# Altium integrated library Atmel Microcontroller tinyAVR.IntLib: 370 symbols (part 1 of 11)
Pins are listed as number, name and electrical type; pins without a type are passive.

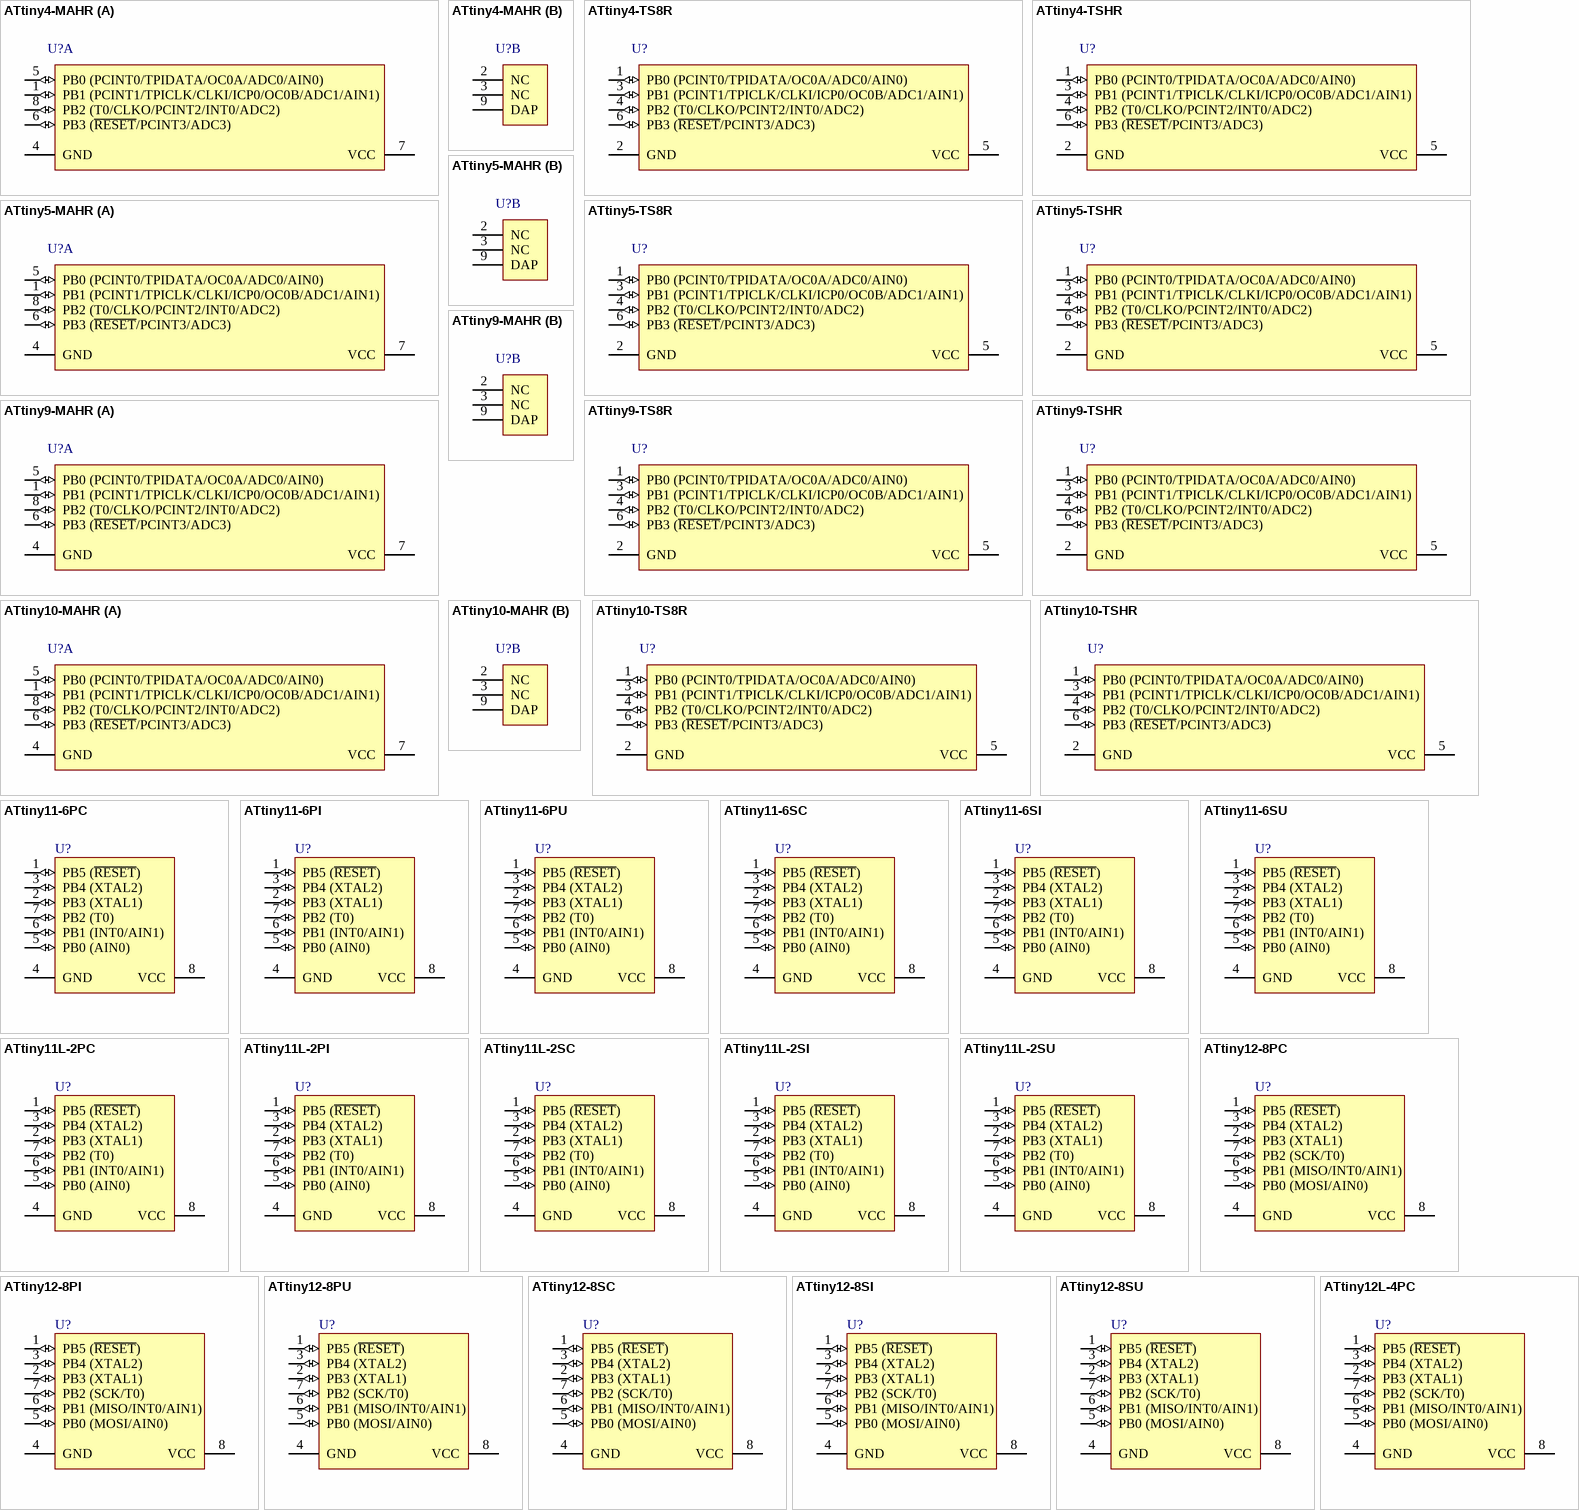
[diagram p0: symbols ATtiny4-MAHR to ATtiny12L-4PC]

## ATtiny4-MAHR
designator U?
8-bit AVR Microcontroller, 1.8-5.5V, 12MHz, 512 Bytes Flash, 32 Bytes SRAM, 8-pin UDFN, Industrial Grade (-40°C to 85°C), Pb-Free, Reel; DatasheetVersion: revE, Nov-2011; PackageVersion: revA, Dec-2009; PackageReference: 8MA4; PackageDescription: 8-Pad Plastic Dual Flat No Lead Package (UDFN/USON) Sawn,  2x2x0.6mm Body, 0.5mm Pitch, 0.9x1.5mm Exposed Pad; Code_JEDEC: MO-236/MO-252; ComponentLink1Description: Manufacturer URL; ComponentLink1URL: http://www.atmel.com/; ComponentLink2Description: ATtiny4/5/9/10 Datasheet; ComponentLink2URL: http://www.atmel.com/dyn/resources/prod_documents/doc8127.pdf; ComponentLink3Description: ATtiny4/5/9/10 Summary; ComponentLink3URL: http://www.atmel.com/dyn/resources/prod_documents/8127S.pdf
footprint 8MA4 (SON, 8-Leads, Body 2x2mm, Pitch 0.5mm)
part A pins: 1 PB1 (PCINT1/TPICLK/CLKI/ICP0/OC0B/ADC1/AIN1) (io), 4 GND (power), 5 PB0 (PCINT0/TPIDATA/OC0A/ADC0/AIN0) (io), 6 PB3 (~{RESET}/PCINT3/ADC3) (io), 7 VCC (power), 8 PB2 (T0/CLKO/PCINT2/INT0/ADC2) (io)
part B pins: 2 NC, 3 NC, 9 DAP (power)

## ATtiny4-TS8R
designator U?
8-bit AVR Microcontroller, 1.8-5.5V, 10MHz, 512 Bytes Flash, 32 Bytes SRAM, 6-pin SOT-23, Extended Grade (-40°C to 125°C), Pb-Free, Reel; DatasheetVersion: revE, Nov-2011; PackageVersion: revA, Jun-2008; PackageReference: 6ST1; PackageDescription: 6-Lead, 2.90 x 1.60 mm Plastic Small Outline Package (SOT23); Code_JEDEC: MO-178-AB; Code_IPC: SOT26A-6; ComponentLink1Description: Manufacturer URL; ComponentLink1URL: http://www.atmel.com/; ComponentLink2Description: ATtiny4/5/9/10 Datasheet; ComponentLink2URL: http://www.atmel.com/dyn/resources/prod_documents/doc8127.pdf; ComponentLink3Description: ATtiny4/5/9/10 Summary; ComponentLink3URL: http://www.atmel.com/dyn/resources/prod_documents/8127S.pdf; ComponentLink4Description: ATtiny4/5/9/10 Appendix; ComponentLink4URL: http://www.atmel.com/dyn/resources/prod_documents/doc8127_125.pdf
footprint 6ST1_N (SOT23, 6-Leads, Body 2.9x1.6mm, Pitch 0.95mm, Lead Span 2.7mm, IPC Medium Density)
footprint 6ST1_L (SOT23, 6-Leads, Body 2.9x1.6mm, Pitch 0.95mm, Lead Span 2.7mm, IPC High Density)
footprint 6ST1_M (SOT23, 6-Leads, Body 2.9x1.6mm, Pitch 0.95mm, Lead Span 2.7mm, IPC Low Density)
pins: 1 PB0 (PCINT0/TPIDATA/OC0A/ADC0/AIN0) (io), 2 GND (power), 3 PB1 (PCINT1/TPICLK/CLKI/ICP0/OC0B/ADC1/AIN1) (io), 4 PB2 (T0/CLKO/PCINT2/INT0/ADC2) (io), 5 VCC (power), 6 PB3 (~{RESET}/PCINT3/ADC3) (io)

## ATtiny4-TSHR
designator U?
8-bit AVR Microcontroller, 1.8-5.5V, 12MHz, 512 Bytes Flash, 32 Bytes SRAM, 6-pin SOT-23, Industrial Grade (-40°C to 85°C), Pb-Free, Reel; DatasheetVersion: revE, Nov-2011; PackageVersion: revA, Jun-2008; PackageReference: 6ST1; PackageDescription: 6-Lead, 2.90 x 1.60 mm Plastic Small Outline Package (SOT23); Code_JEDEC: MO-178-AB; Code_IPC: SOT26A-6; ComponentLink1Description: Manufacturer URL; ComponentLink1URL: http://www.atmel.com/; ComponentLink2Description: ATtiny4/5/9/10 Datasheet; ComponentLink2URL: http://www.atmel.com/dyn/resources/prod_documents/doc8127.pdf; ComponentLink3Description: ATtiny4/5/9/10 Summary; ComponentLink3URL: http://www.atmel.com/dyn/resources/prod_documents/8127S.pdf; ComponentLink4Description: ATtiny4/5/9/10 Appendix; ComponentLink4URL: http://www.atmel.com/dyn/resources/prod_documents/doc8127_125.pdf
footprint 6ST1_N (SOT23, 6-Leads, Body 2.9x1.6mm, Pitch 0.95mm, Lead Span 2.7mm, IPC Medium Density)
footprint 6ST1_L (SOT23, 6-Leads, Body 2.9x1.6mm, Pitch 0.95mm, Lead Span 2.7mm, IPC High Density)
footprint 6ST1_M (SOT23, 6-Leads, Body 2.9x1.6mm, Pitch 0.95mm, Lead Span 2.7mm, IPC Low Density)
pins: 1 PB0 (PCINT0/TPIDATA/OC0A/ADC0/AIN0) (io), 2 GND (power), 3 PB1 (PCINT1/TPICLK/CLKI/ICP0/OC0B/ADC1/AIN1) (io), 4 PB2 (T0/CLKO/PCINT2/INT0/ADC2) (io), 5 VCC (power), 6 PB3 (~{RESET}/PCINT3/ADC3) (io)

## ATtiny5-MAHR
designator U?
8-bit AVR Microcontroller, 1.8-5.5V, 12MHz, 512 Bytes Flash, 32 Bytes SRAM, ADC8-pin UDFN, Industrial Grade (-40°C to 85°C), Pb-Free, Reel; DatasheetVersion: revE, Nov-2011; PackageVersion: revA, Dec-2009; PackageReference: 8MA4; PackageDescription: 8-Pad Plastic Dual Flat No Lead Package (UDFN/USON) Sawn,  2x2x0.6mm Body, 0.5mm Pitch, 0.9x1.5mm Exposed Pad; Code_JEDEC: MO-236/MO-252; ComponentLink1Description: Manufacturer URL; ComponentLink1URL: http://www.atmel.com/; ComponentLink2Description: ATtiny4/5/9/10 Datasheet; ComponentLink2URL: http://www.atmel.com/dyn/resources/prod_documents/doc8127.pdf; ComponentLink3Description: ATtiny4/5/9/10 Summary; ComponentLink3URL: http://www.atmel.com/dyn/resources/prod_documents/8127S.pdf
footprint 8MA4 (SON, 8-Leads, Body 2x2mm, Pitch 0.5mm)
part A pins: 1 PB1 (PCINT1/TPICLK/CLKI/ICP0/OC0B/ADC1/AIN1) (io), 4 GND (power), 5 PB0 (PCINT0/TPIDATA/OC0A/ADC0/AIN0) (io), 6 PB3 (~{RESET}/PCINT3/ADC3) (io), 7 VCC (power), 8 PB2 (T0/CLKO/PCINT2/INT0/ADC2) (io)
part B pins: 2 NC, 3 NC, 9 DAP (power)

## ATtiny5-TS8R
designator U?
8-bit AVR Microcontroller, 1.8-5.5V, 10MHz, 512 Bytes Flash, 32 Bytes SRAM, ADC, 6-pin SOT-23, Extended Grade (-40°C to 125°C), Pb-Free, Reel; DatasheetVersion: revE, Nov-2011; PackageVersion: revA, Jun-2008; PackageReference: 6ST1; PackageDescription: 6-Lead, 2.90 x 1.60 mm Plastic Small Outline Package (SOT23); Code_JEDEC: MO-178-AB; Code_IPC: SOT26A-6; ComponentLink1Description: Manufacturer URL; ComponentLink1URL: http://www.atmel.com/; ComponentLink2Description: ATtiny4/5/9/10 Datasheet; ComponentLink2URL: http://www.atmel.com/dyn/resources/prod_documents/doc8127.pdf; ComponentLink3Description: ATtiny4/5/9/10 Summary; ComponentLink3URL: http://www.atmel.com/dyn/resources/prod_documents/8127S.pdf; ComponentLink4Description: ATtiny4/5/9/10 Appendix; ComponentLink4URL: http://www.atmel.com/dyn/resources/prod_documents/doc8127_125.pdf
footprint 6ST1_N (SOT23, 6-Leads, Body 2.9x1.6mm, Pitch 0.95mm, Lead Span 2.7mm, IPC Medium Density)
footprint 6ST1_L (SOT23, 6-Leads, Body 2.9x1.6mm, Pitch 0.95mm, Lead Span 2.7mm, IPC High Density)
footprint 6ST1_M (SOT23, 6-Leads, Body 2.9x1.6mm, Pitch 0.95mm, Lead Span 2.7mm, IPC Low Density)
pins: 1 PB0 (PCINT0/TPIDATA/OC0A/ADC0/AIN0) (io), 2 GND (power), 3 PB1 (PCINT1/TPICLK/CLKI/ICP0/OC0B/ADC1/AIN1) (io), 4 PB2 (T0/CLKO/PCINT2/INT0/ADC2) (io), 5 VCC (power), 6 PB3 (~{RESET}/PCINT3/ADC3) (io)

## ATtiny5-TSHR
designator U?
8-bit AVR Microcontroller, 1.8-5.5V, 12MHz, 512 Bytes Flash, 32 Bytes SRAM, ADC6-pin SOT-23, Industrial Grade (-40°C to 85°C), Pb-Free, Reel; DatasheetVersion: revE, Nov-2011; PackageVersion: revA, Jun-2008; PackageReference: 6ST1; PackageDescription: 6-Lead, 2.90 x 1.60 mm Plastic Small Outline Package (SOT23); Code_JEDEC: MO-178-AB; Code_IPC: SOT26A-6; ComponentLink1Description: Manufacturer URL; ComponentLink1URL: http://www.atmel.com/; ComponentLink2Description: ATtiny4/5/9/10 Datasheet; ComponentLink2URL: http://www.atmel.com/dyn/resources/prod_documents/doc8127.pdf; ComponentLink3Description: ATtiny4/5/9/10 Summary; ComponentLink3URL: http://www.atmel.com/dyn/resources/prod_documents/8127S.pdf
footprint 6ST1_N (SOT23, 6-Leads, Body 2.9x1.6mm, Pitch 0.95mm, Lead Span 2.7mm, IPC Medium Density)
footprint 6ST1_L (SOT23, 6-Leads, Body 2.9x1.6mm, Pitch 0.95mm, Lead Span 2.7mm, IPC High Density)
footprint 6ST1_M (SOT23, 6-Leads, Body 2.9x1.6mm, Pitch 0.95mm, Lead Span 2.7mm, IPC Low Density)
pins: 1 PB0 (PCINT0/TPIDATA/OC0A/ADC0/AIN0) (io), 2 GND (power), 3 PB1 (PCINT1/TPICLK/CLKI/ICP0/OC0B/ADC1/AIN1) (io), 4 PB2 (T0/CLKO/PCINT2/INT0/ADC2) (io), 5 VCC (power), 6 PB3 (~{RESET}/PCINT3/ADC3) (io)

## ATtiny9-MAHR
designator U?
8-bit AVR Microcontroller, 1.8-5.5V, 12MHz, 1KB Flash, 32 Bytes SRAM, 8-pin UDFN, Industrial Grade (-40°C to 85°C), Pb-Free, Reel; DatasheetVersion: revE, Nov-2011; PackageVersion: revA, Dec-2009; PackageReference: 8MA4; PackageDescription: 8-Pad Plastic Dual Flat No Lead Package (UDFN/USON) Sawn,  2x2x0.6mm Body, 0.5mm Pitch, 0.9x1.5mm Exposed Pad; Code_JEDEC: MO-236/MO-252; ComponentLink1Description: Manufacturer URL; ComponentLink1URL: http://www.atmel.com/; ComponentLink2Description: ATtiny4/5/9/10 Datasheet; ComponentLink2URL: http://www.atmel.com/dyn/resources/prod_documents/doc8127.pdf; ComponentLink3Description: ATtiny4/5/9/10 Summary; ComponentLink3URL: http://www.atmel.com/dyn/resources/prod_documents/8127S.pdf
footprint 8MA4 (SON, 8-Leads, Body 2x2mm, Pitch 0.5mm)
part A pins: 1 PB1 (PCINT1/TPICLK/CLKI/ICP0/OC0B/ADC1/AIN1) (io), 4 GND (power), 5 PB0 (PCINT0/TPIDATA/OC0A/ADC0/AIN0) (io), 6 PB3 (~{RESET}/PCINT3/ADC3) (io), 7 VCC (power), 8 PB2 (T0/CLKO/PCINT2/INT0/ADC2) (io)
part B pins: 2 NC, 3 NC, 9 DAP (power)

## ATtiny9-TS8R
designator U?
8-bit AVR Microcontroller, 1.8-5.5V, 10MHz, 1KB Flash, 32 Bytes SRAM, 6-pin SOT-23, Extended Grade (-40°C to 125°C), Pb-Free, Reel; DatasheetVersion: revE, Nov-2011; PackageVersion: revA, Jun-2008; PackageReference: 6ST1; PackageDescription: 6-Lead, 2.90 x 1.60 mm Plastic Small Outline Package (SOT23); Code_JEDEC: MO-178-AB; Code_IPC: SOT26A-6; ComponentLink1Description: Manufacturer URL; ComponentLink1URL: http://www.atmel.com/; ComponentLink2Description: ATtiny4/5/9/10 Datasheet; ComponentLink2URL: http://www.atmel.com/dyn/resources/prod_documents/doc8127.pdf; ComponentLink3Description: ATtiny4/5/9/10 Summary; ComponentLink3URL: http://www.atmel.com/dyn/resources/prod_documents/8127S.pdf; ComponentLink4Description: ATtiny4/5/9/10 Appendix; ComponentLink4URL: http://www.atmel.com/dyn/resources/prod_documents/doc8127_125.pdf
footprint 6ST1_N (SOT23, 6-Leads, Body 2.9x1.6mm, Pitch 0.95mm, Lead Span 2.7mm, IPC Medium Density)
footprint 6ST1_L (SOT23, 6-Leads, Body 2.9x1.6mm, Pitch 0.95mm, Lead Span 2.7mm, IPC High Density)
footprint 6ST1_M (SOT23, 6-Leads, Body 2.9x1.6mm, Pitch 0.95mm, Lead Span 2.7mm, IPC Low Density)
pins: 1 PB0 (PCINT0/TPIDATA/OC0A/ADC0/AIN0) (io), 2 GND (power), 3 PB1 (PCINT1/TPICLK/CLKI/ICP0/OC0B/ADC1/AIN1) (io), 4 PB2 (T0/CLKO/PCINT2/INT0/ADC2) (io), 5 VCC (power), 6 PB3 (~{RESET}/PCINT3/ADC3) (io)

## ATtiny9-TSHR
designator U?
8-bit AVR Microcontroller, 1.8-5.5V, 12MHz, 1KB Flash, 32 Bytes SRAM, 6-pin SOT-23, Industrial Grade (-40°C to 85°C), Pb-Free, Reel; DatasheetVersion: revE, Nov-2011; PackageVersion: revA, Jun-2008; PackageReference: 6ST1; PackageDescription: 6-Lead, 2.90 x 1.60 mm Plastic Small Outline Package (SOT23); Code_JEDEC: MO-178-AB; Code_IPC: SOT26A-6; ComponentLink1Description: Manufacturer URL; ComponentLink1URL: http://www.atmel.com/; ComponentLink2Description: ATtiny4/5/9/10 Datasheet; ComponentLink2URL: http://www.atmel.com/dyn/resources/prod_documents/doc8127.pdf; ComponentLink3Description: ATtiny4/5/9/10 Summary; ComponentLink3URL: http://www.atmel.com/dyn/resources/prod_documents/8127S.pdf
footprint 6ST1_N (SOT23, 6-Leads, Body 2.9x1.6mm, Pitch 0.95mm, Lead Span 2.7mm, IPC Medium Density)
footprint 6ST1_L (SOT23, 6-Leads, Body 2.9x1.6mm, Pitch 0.95mm, Lead Span 2.7mm, IPC High Density)
footprint 6ST1_M (SOT23, 6-Leads, Body 2.9x1.6mm, Pitch 0.95mm, Lead Span 2.7mm, IPC Low Density)
pins: 1 PB0 (PCINT0/TPIDATA/OC0A/ADC0/AIN0) (io), 2 GND (power), 3 PB1 (PCINT1/TPICLK/CLKI/ICP0/OC0B/ADC1/AIN1) (io), 4 PB2 (T0/CLKO/PCINT2/INT0/ADC2) (io), 5 VCC (power), 6 PB3 (~{RESET}/PCINT3/ADC3) (io)

## ATtiny10-MAHR
designator U?
8-bit AVR Microcontroller, 1.8-5.5V, 12MHz, 1KB Flash, 32 Bytes SRAM, ADC, 8-pin UDFN, Industrial Grade (-40°C to 85°C), Pb-Free, Reel; DatasheetVersion: revE, Nov-2011; PackageVersion: revA, Dec-2009; PackageReference: 8MA4; PackageDescription: 8-Pad Plastic Dual Flat No Lead Package (UDFN/USON) Sawn,  2x2x0.6mm Body, 0.5mm Pitch, 0.9x1.5mm Exposed Pad; Code_JEDEC: MO-236/MO-252; ComponentLink1Description: Manufacturer URL; ComponentLink1URL: http://www.atmel.com/; ComponentLink2Description: ATtiny4/5/9/10 Datasheet; ComponentLink2URL: http://www.atmel.com/dyn/resources/prod_documents/doc8127.pdf; ComponentLink3Description: ATtiny4/5/9/10 Summary; ComponentLink3URL: http://www.atmel.com/dyn/resources/prod_documents/8127S.pdf
footprint 8MA4 (SON, 8-Leads, Body 2x2mm, Pitch 0.5mm)
part A pins: 1 PB1 (PCINT1/TPICLK/CLKI/ICP0/OC0B/ADC1/AIN1) (io), 4 GND (power), 5 PB0 (PCINT0/TPIDATA/OC0A/ADC0/AIN0) (io), 6 PB3 (~{RESET}/PCINT3/ADC3) (io), 7 VCC (power), 8 PB2 (T0/CLKO/PCINT2/INT0/ADC2) (io)
part B pins: 2 NC, 3 NC, 9 DAP (power)

## ATtiny10-TS8R
designator U?
8-bit AVR Microcontroller, 1.8-5.5V, 10MHz, 1KB Flash, 32 Bytes SRAM, ADC, 6-pin SOT-23, Extended Grade (-40°C to 125°C), Pb-Free, Reel; DatasheetVersion: revE, Nov-2011; PackageVersion: revA, Jun-2008; PackageReference: 6ST1; PackageDescription: 6-Lead, 2.90 x 1.60 mm Plastic Small Outline Package (SOT23); Code_JEDEC: MO-178-AB; Code_IPC: SOT26A-6; ComponentLink1Description: Manufacturer URL; ComponentLink1URL: http://www.atmel.com/; ComponentLink2Description: ATtiny4/5/9/10 Datasheet; ComponentLink2URL: http://www.atmel.com/dyn/resources/prod_documents/doc8127.pdf; ComponentLink3Description: ATtiny4/5/9/10 Summary; ComponentLink3URL: http://www.atmel.com/dyn/resources/prod_documents/8127S.pdf
footprint 6ST1_N (SOT23, 6-Leads, Body 2.9x1.6mm, Pitch 0.95mm, Lead Span 2.7mm, IPC Medium Density)
footprint 6ST1_L (SOT23, 6-Leads, Body 2.9x1.6mm, Pitch 0.95mm, Lead Span 2.7mm, IPC High Density)
footprint 6ST1_M (SOT23, 6-Leads, Body 2.9x1.6mm, Pitch 0.95mm, Lead Span 2.7mm, IPC Low Density)
pins: 1 PB0 (PCINT0/TPIDATA/OC0A/ADC0/AIN0) (io), 2 GND (power), 3 PB1 (PCINT1/TPICLK/CLKI/ICP0/OC0B/ADC1/AIN1) (io), 4 PB2 (T0/CLKO/PCINT2/INT0/ADC2) (io), 5 VCC (power), 6 PB3 (~{RESET}/PCINT3/ADC3) (io)

## ATtiny10-TSHR
designator U?
8-bit AVR Microcontroller, 1.8-5.5V, 12MHz, 1KB Flash, 32 Bytes SRAM, ADC, 6-pin SOT-23, Industrial Grade (-40°C to 85°C), Pb-Free, Reel; DatasheetVersion: revE, Nov-2011; PackageVersion: revA, Jun-2008; PackageReference: 6ST1; PackageDescription: 6-Lead, 2.90 x 1.60 mm Plastic Small Outline Package (SOT23); Code_JEDEC: MO-178-AB; Code_IPC: SOT26A-6; ComponentLink1Description: Manufacturer URL; ComponentLink1URL: http://www.atmel.com/; ComponentLink2Description: ATtiny4/5/9/10 Datasheet; ComponentLink2URL: http://www.atmel.com/dyn/resources/prod_documents/doc8127.pdf; ComponentLink3Description: ATtiny4/5/9/10 Summary; ComponentLink3URL: http://www.atmel.com/dyn/resources/prod_documents/8127S.pdf
footprint 6ST1_N (SOT23, 6-Leads, Body 2.9x1.6mm, Pitch 0.95mm, Lead Span 2.7mm, IPC Medium Density)
footprint 6ST1_L (SOT23, 6-Leads, Body 2.9x1.6mm, Pitch 0.95mm, Lead Span 2.7mm, IPC High Density)
footprint 6ST1_M (SOT23, 6-Leads, Body 2.9x1.6mm, Pitch 0.95mm, Lead Span 2.7mm, IPC Low Density)
pins: 1 PB0 (PCINT0/TPIDATA/OC0A/ADC0/AIN0) (io), 2 GND (power), 3 PB1 (PCINT1/TPICLK/CLKI/ICP0/OC0B/ADC1/AIN1) (io), 4 PB2 (T0/CLKO/PCINT2/INT0/ADC2) (io), 5 VCC (power), 6 PB3 (~{RESET}/PCINT3/ADC3) (io)

## ATtiny11-6PC
designator U?
8-bit AVR Microcontroller, 4.0-5.5V, 1KB Flash, 8-pin PDIP, Commercial Grade (0°C to 70°C); DatasheetVersion: revF, Jun-2007; PackageVersion: revB, Jan-2002; PackageReference: 8P3; PackageDescription: 8-Lead, 0.300" Wide Body, Plastic Dual In-Line Package (PDIP); Code_JEDEC: MS-001-BA; ComponentLink1Description: Manufacturer URL; ComponentLink1URL: http://www.atmel.com/; ComponentLink2Description: ATtiny11/12 Datasheet; ComponentLink2URL: http://www.atmel.com/dyn/resources/prod_documents/doc1006.pdf; ComponentLink3Description: ATtiny11/12 Summary; ComponentLink3URL: http://www.atmel.com/dyn/resources/prod_documents/1006S.pdf
footprint 8P3 (DIP, 8-Leads, Row Spacing 7.62mm, Pitch 2.54mm, Body 9.59x6.61mm)
pins: 1 PB5 (~{RESET}) (io), 2 PB3 (XTAL1) (io), 3 PB4 (XTAL2) (io), 4 GND (power), 5 PB0 (AIN0) (io), 6 PB1 (INT0/AIN1) (io), 7 PB2 (T0) (io), 8 VCC (power)

## ATtiny11-6PI
designator U?
8-bit AVR Microcontroller, 4.0-5.5V, 1KB Flash, 8-pin PDIP, Industrial Grade (-40°C to 85°C); DatasheetVersion: revF, Jun-2007; PackageVersion: revB, Jan-2002; PackageReference: 8P3; PackageDescription: 8-Lead, 0.300" Wide Body, Plastic Dual In-Line Package (PDIP); Code_JEDEC: MS-001-BA; ComponentLink1Description: Manufacturer URL; ComponentLink1URL: http://www.atmel.com/; ComponentLink2Description: ATtiny11/12 Datasheet; ComponentLink2URL: http://www.atmel.com/dyn/resources/prod_documents/doc1006.pdf; ComponentLink3Description: ATtiny11/12 Summary; ComponentLink3URL: http://www.atmel.com/dyn/resources/prod_documents/1006S.pdf
footprint 8P3 (DIP, 8-Leads, Row Spacing 7.62mm, Pitch 2.54mm, Body 9.59x6.61mm)
pins: 1 PB5 (~{RESET}) (io), 2 PB3 (XTAL1) (io), 3 PB4 (XTAL2) (io), 4 GND (power), 5 PB0 (AIN0) (io), 6 PB1 (INT0/AIN1) (io), 7 PB2 (T0) (io), 8 VCC (power)

## ATtiny11-6PU
designator U?
8-bit AVR Microcontroller, 4.0-5.5V, 1KB Flash, 8-pin PDIP, Industrial Grade (-40°C to 85°C), Pb-Free; DatasheetVersion: revF, Jun-2007; PackageVersion: revB, Jan-2002; PackageReference: 8P3; PackageDescription: 8-Lead, 0.300" Wide Body, Plastic Dual In-Line Package (PDIP); Code_JEDEC: MS-001-BA; ComponentLink1Description: Manufacturer URL; ComponentLink1URL: http://www.atmel.com/; ComponentLink2Description: ATtiny11/12 Datasheet; ComponentLink2URL: http://www.atmel.com/dyn/resources/prod_documents/doc1006.pdf; ComponentLink3Description: ATtiny11/12 Summary; ComponentLink3URL: http://www.atmel.com/dyn/resources/prod_documents/1006S.pdf
footprint 8P3 (DIP, 8-Leads, Row Spacing 7.62mm, Pitch 2.54mm, Body 9.59x6.61mm)
pins: 1 PB5 (~{RESET}) (io), 2 PB3 (XTAL1) (io), 3 PB4 (XTAL2) (io), 4 GND (power), 5 PB0 (AIN0) (io), 6 PB1 (INT0/AIN1) (io), 7 PB2 (T0) (io), 8 VCC (power)

## ATtiny11-6SC
designator U?
8-bit AVR Microcontroller, 4.0-5.5V, 1KB Flash, 8-pin SOIC, Commercial Grade (0°C to 70°C); DatasheetVersion: revF, Jun-2007; PackageVersion: revF, Apr-2008; PackageReference: 8S2; PackageDescription: 8-Lead, 0.208" Body, Plastic Small Outline Package (EIAJ); ComponentLink1Description: Manufacturer URL; ComponentLink1URL: http://www.atmel.com/; ComponentLink2Description: ATtiny11/12 Datasheet; ComponentLink2URL: http://www.atmel.com/dyn/resources/prod_documents/doc1006.pdf; ComponentLink3Description: ATtiny11/12 Summary; ComponentLink3URL: http://www.atmel.com/dyn/resources/prod_documents/1006S.pdf
footprint 8S2_N (SOP, 8-Leads, Body 5.3x5.3mm, Pitch 1.27mm, IPC Medium Density)
footprint 8S2_L (SOP, 8-Leads, Body 5.3x5.3mm, Pitch 1.27mm, IPC High Density)
footprint 8S2_M (SOP, 8-Leads, Body 5.3x5.3mm, Pitch 1.27mm, IPC Low Density)
pins: 1 PB5 (~{RESET}) (io), 2 PB3 (XTAL1) (io), 3 PB4 (XTAL2) (io), 4 GND (power), 5 PB0 (AIN0) (io), 6 PB1 (INT0/AIN1) (io), 7 PB2 (T0) (io), 8 VCC (power)

## ATtiny11-6SI
designator U?
8-bit AVR Microcontroller, 4.0-5.5V, 1KB Flash, 8-pin SOIC, Industrial Grade (-40°C to 85°C); DatasheetVersion: revF, Jun-2007; PackageVersion: revF, Apr-2008; PackageReference: 8S2; PackageDescription: 8-Lead, 0.208" Body, Plastic Small Outline Package (EIAJ); ComponentLink1Description: Manufacturer URL; ComponentLink1URL: http://www.atmel.com/; ComponentLink2Description: ATtiny11/12 Datasheet; ComponentLink2URL: http://www.atmel.com/dyn/resources/prod_documents/doc1006.pdf; ComponentLink3Description: ATtiny11/12 Summary; ComponentLink3URL: http://www.atmel.com/dyn/resources/prod_documents/1006S.pdf
footprint 8S2_N (SOP, 8-Leads, Body 5.3x5.3mm, Pitch 1.27mm, IPC Medium Density)
footprint 8S2_L (SOP, 8-Leads, Body 5.3x5.3mm, Pitch 1.27mm, IPC High Density)
footprint 8S2_M (SOP, 8-Leads, Body 5.3x5.3mm, Pitch 1.27mm, IPC Low Density)
pins: 1 PB5 (~{RESET}) (io), 2 PB3 (XTAL1) (io), 3 PB4 (XTAL2) (io), 4 GND (power), 5 PB0 (AIN0) (io), 6 PB1 (INT0/AIN1) (io), 7 PB2 (T0) (io), 8 VCC (power)

## ATtiny11-6SU
designator U?
8-bit AVR Microcontroller, 4.0-5.5V, 1KB Flash, 8-pin SOIC, Industrial Grade (-40°C to 85°C), Pb-Free; DatasheetVersion: revF, Jun-2007; PackageVersion: revF, Apr-2008; PackageReference: 8S2; PackageDescription: 8-Lead, 0.208" Body, Plastic Small Outline Package (EIAJ); ComponentLink1Description: Manufacturer URL; ComponentLink1URL: http://www.atmel.com/; ComponentLink2Description: ATtiny11/12 Datasheet; ComponentLink2URL: http://www.atmel.com/dyn/resources/prod_documents/doc1006.pdf; ComponentLink3Description: ATtiny11/12 Summary; ComponentLink3URL: http://www.atmel.com/dyn/resources/prod_documents/1006S.pdf
footprint 8S2_N (SOP, 8-Leads, Body 5.3x5.3mm, Pitch 1.27mm, IPC Medium Density)
footprint 8S2_L (SOP, 8-Leads, Body 5.3x5.3mm, Pitch 1.27mm, IPC High Density)
footprint 8S2_M (SOP, 8-Leads, Body 5.3x5.3mm, Pitch 1.27mm, IPC Low Density)
pins: 1 PB5 (~{RESET}) (io), 2 PB3 (XTAL1) (io), 3 PB4 (XTAL2) (io), 4 GND (power), 5 PB0 (AIN0) (io), 6 PB1 (INT0/AIN1) (io), 7 PB2 (T0) (io), 8 VCC (power)

## ATtiny11L-2PC
designator U?
8-bit AVR Microcontroller, 2.7-5.5V, 1KB Flash, 8-pin PDIP, Commercial Grade (0°C to 70°C); DatasheetVersion: revF, Jun-2007; PackageVersion: revB, Jan-2002; PackageReference: 8P3; PackageDescription: 8-Lead, 0.300" Wide Body, Plastic Dual In-Line Package (PDIP); Code_JEDEC: MS-001-BA; ComponentLink1Description: Manufacturer URL; ComponentLink1URL: http://www.atmel.com/; ComponentLink2Description: ATtiny11/12 Datasheet; ComponentLink2URL: http://www.atmel.com/dyn/resources/prod_documents/doc1006.pdf; ComponentLink3Description: ATtiny11/12 Summary; ComponentLink3URL: http://www.atmel.com/dyn/resources/prod_documents/1006S.pdf
footprint 8P3 (DIP, 8-Leads, Row Spacing 7.62mm, Pitch 2.54mm, Body 9.59x6.61mm)
pins: 1 PB5 (~{RESET}) (io), 2 PB3 (XTAL1) (io), 3 PB4 (XTAL2) (io), 4 GND (power), 5 PB0 (AIN0) (io), 6 PB1 (INT0/AIN1) (io), 7 PB2 (T0) (io), 8 VCC (power)

## ATtiny11L-2PI
designator U?
8-bit AVR Microcontroller, 2.7-5.5V, 1KB Flash, 8-pin PDIP, Industrial Grade (-40°C to 85°C); DatasheetVersion: revF, Jun-2007; PackageVersion: revB, Jan-2002; PackageReference: 8P3; PackageDescription: 8-Lead, 0.300" Wide Body, Plastic Dual In-Line Package (PDIP); Code_JEDEC: MS-001-BA; ComponentLink1Description: Manufacturer URL; ComponentLink1URL: http://www.atmel.com/; ComponentLink2Description: ATtiny11/12 Datasheet; ComponentLink2URL: http://www.atmel.com/dyn/resources/prod_documents/doc1006.pdf; ComponentLink3Description: ATtiny11/12 Summary; ComponentLink3URL: http://www.atmel.com/dyn/resources/prod_documents/1006S.pdf
footprint 8P3 (DIP, 8-Leads, Row Spacing 7.62mm, Pitch 2.54mm, Body 9.59x6.61mm)
pins: 1 PB5 (~{RESET}) (io), 2 PB3 (XTAL1) (io), 3 PB4 (XTAL2) (io), 4 GND (power), 5 PB0 (AIN0) (io), 6 PB1 (INT0/AIN1) (io), 7 PB2 (T0) (io), 8 VCC (power)

## ATtiny11L-2SC
designator U?
8-bit AVR Microcontroller, 2.7-5.5V, 1KB Flash, 8-pin SOIC, Commercial Grade (0°C to 70°C); DatasheetVersion: revF, Jun-2007; PackageVersion: revF, Apr-2008; PackageReference: 8S2; PackageDescription: 8-Lead, 0.208" Body, Plastic Small Outline Package (EIAJ); ComponentLink1Description: Manufacturer URL; ComponentLink1URL: http://www.atmel.com/; ComponentLink2Description: ATtiny11/12 Datasheet; ComponentLink2URL: http://www.atmel.com/dyn/resources/prod_documents/doc1006.pdf; ComponentLink3Description: ATtiny11/12 Summary; ComponentLink3URL: http://www.atmel.com/dyn/resources/prod_documents/1006S.pdf
footprint 8S2_N (SOP, 8-Leads, Body 5.3x5.3mm, Pitch 1.27mm, IPC Medium Density)
footprint 8S2_L (SOP, 8-Leads, Body 5.3x5.3mm, Pitch 1.27mm, IPC High Density)
footprint 8S2_M (SOP, 8-Leads, Body 5.3x5.3mm, Pitch 1.27mm, IPC Low Density)
pins: 1 PB5 (~{RESET}) (io), 2 PB3 (XTAL1) (io), 3 PB4 (XTAL2) (io), 4 GND (power), 5 PB0 (AIN0) (io), 6 PB1 (INT0/AIN1) (io), 7 PB2 (T0) (io), 8 VCC (power)

## ATtiny11L-2SI
designator U?
8-bit AVR Microcontroller, 2.7-5.5V, 1KB Flash, 8-pin SOIC, Industrial Grade (-40°C to 85°C); DatasheetVersion: revF, Jun-2007; PackageVersion: revF, Apr-2008; PackageReference: 8S2; PackageDescription: 8-Lead, 0.208" Body, Plastic Small Outline Package (EIAJ); ComponentLink1Description: Manufacturer URL; ComponentLink1URL: http://www.atmel.com/; ComponentLink2Description: ATtiny11/12 Datasheet; ComponentLink2URL: http://www.atmel.com/dyn/resources/prod_documents/doc1006.pdf; ComponentLink3Description: ATtiny11/12 Summary; ComponentLink3URL: http://www.atmel.com/dyn/resources/prod_documents/1006S.pdf
footprint 8S2_N (SOP, 8-Leads, Body 5.3x5.3mm, Pitch 1.27mm, IPC Medium Density)
footprint 8S2_L (SOP, 8-Leads, Body 5.3x5.3mm, Pitch 1.27mm, IPC High Density)
footprint 8S2_M (SOP, 8-Leads, Body 5.3x5.3mm, Pitch 1.27mm, IPC Low Density)
pins: 1 PB5 (~{RESET}) (io), 2 PB3 (XTAL1) (io), 3 PB4 (XTAL2) (io), 4 GND (power), 5 PB0 (AIN0) (io), 6 PB1 (INT0/AIN1) (io), 7 PB2 (T0) (io), 8 VCC (power)

## ATtiny11L-2SU
designator U?
8-bit AVR Microcontroller, 2.7-5.5V, 1KB Flash, 8-pin SOIC, Industrial Grade (-40°C to 85°C), Pb-Free; DatasheetVersion: revF, Jun-2007; PackageVersion: revF, Apr-2008; PackageReference: 8S2; PackageDescription: 8-Lead, 0.208" Body, Plastic Small Outline Package (EIAJ); ComponentLink1Description: Manufacturer URL; ComponentLink1URL: http://www.atmel.com/; ComponentLink2Description: ATtiny11/12 Datasheet; ComponentLink2URL: http://www.atmel.com/dyn/resources/prod_documents/doc1006.pdf; ComponentLink3Description: ATtiny11/12 Summary; ComponentLink3URL: http://www.atmel.com/dyn/resources/prod_documents/1006S.pdf
footprint 8S2_N (SOP, 8-Leads, Body 5.3x5.3mm, Pitch 1.27mm, IPC Medium Density)
footprint 8S2_L (SOP, 8-Leads, Body 5.3x5.3mm, Pitch 1.27mm, IPC High Density)
footprint 8S2_M (SOP, 8-Leads, Body 5.3x5.3mm, Pitch 1.27mm, IPC Low Density)
pins: 1 PB5 (~{RESET}) (io), 2 PB3 (XTAL1) (io), 3 PB4 (XTAL2) (io), 4 GND (power), 5 PB0 (AIN0) (io), 6 PB1 (INT0/AIN1) (io), 7 PB2 (T0) (io), 8 VCC (power)

## ATtiny12-8PC
designator U?
8-bit AVR Microcontroller, 4.0-5.5V, 1KB Flash, 64 Bytes EEPROM, 8-pin PDIP, Commercial Grade (0°C to 70°C); DatasheetVersion: revF, Jun-2007; PackageVersion: revB, Jan-2002; PackageReference: 8P3; PackageDescription: 8-Lead, 0.300" Wide Body, Plastic Dual In-Line Package (PDIP); Code_JEDEC: MS-001-BA; ComponentLink1Description: Manufacturer URL; ComponentLink1URL: http://www.atmel.com/; ComponentLink2Description: ATtiny11/12 Datasheet; ComponentLink2URL: http://www.atmel.com/dyn/resources/prod_documents/doc1006.pdf; ComponentLink3Description: ATtiny11/12 Summary; ComponentLink3URL: http://www.atmel.com/dyn/resources/prod_documents/1006S.pdf
footprint 8P3 (DIP, 8-Leads, Row Spacing 7.62mm, Pitch 2.54mm, Body 9.59x6.61mm)
pins: 1 PB5 (~{RESET}) (io), 2 PB3 (XTAL1) (io), 3 PB4 (XTAL2) (io), 4 GND (power), 5 PB0 (MOSI/AIN0) (io), 6 PB1 (MISO/INT0/AIN1) (io), 7 PB2 (SCK/T0) (io), 8 VCC (power)

## ATtiny12-8PI
designator U?
8-bit AVR Microcontroller, 4.0-5.5V, 1KB Flash, 64 Bytes EEPROM, 8-pin PDIP, Industrial Grade (-40°C to 85°C); DatasheetVersion: revF, Jun-2007; PackageVersion: revB, Jan-2002; PackageReference: 8P3; PackageDescription: 8-Lead, 0.300" Wide Body, Plastic Dual In-Line Package (PDIP); Code_JEDEC: MS-001-BA; ComponentLink1Description: Manufacturer URL; ComponentLink1URL: http://www.atmel.com/; ComponentLink2Description: ATtiny11/12 Datasheet; ComponentLink2URL: http://www.atmel.com/dyn/resources/prod_documents/doc1006.pdf; ComponentLink3Description: ATtiny11/12 Summary; ComponentLink3URL: http://www.atmel.com/dyn/resources/prod_documents/1006S.pdf
footprint 8P3 (DIP, 8-Leads, Row Spacing 7.62mm, Pitch 2.54mm, Body 9.59x6.61mm)
pins: 1 PB5 (~{RESET}) (io), 2 PB3 (XTAL1) (io), 3 PB4 (XTAL2) (io), 4 GND (power), 5 PB0 (MOSI/AIN0) (io), 6 PB1 (MISO/INT0/AIN1) (io), 7 PB2 (SCK/T0) (io), 8 VCC (power)

## ATtiny12-8PU
designator U?
8-bit AVR Microcontroller, 4.0-5.5V, 1KB Flash, 64 Bytes EEPROM, 8-pin PDIP, Industrial Grade (-40°C to 85°C), Pb-Free; DatasheetVersion: revF, Jun-2007; PackageVersion: revB, Jan-2002; PackageReference: 8P3; PackageDescription: 8-Lead, 0.300" Wide Body, Plastic Dual In-Line Package (PDIP); Code_JEDEC: MS-001-BA; ComponentLink1Description: Manufacturer URL; ComponentLink1URL: http://www.atmel.com/; ComponentLink2Description: ATtiny11/12 Datasheet; ComponentLink2URL: http://www.atmel.com/dyn/resources/prod_documents/doc1006.pdf; ComponentLink3Description: ATtiny11/12 Summary; ComponentLink3URL: http://www.atmel.com/dyn/resources/prod_documents/1006S.pdf
footprint 8P3 (DIP, 8-Leads, Row Spacing 7.62mm, Pitch 2.54mm, Body 9.59x6.61mm)
pins: 1 PB5 (~{RESET}) (io), 2 PB3 (XTAL1) (io), 3 PB4 (XTAL2) (io), 4 GND (power), 5 PB0 (MOSI/AIN0) (io), 6 PB1 (MISO/INT0/AIN1) (io), 7 PB2 (SCK/T0) (io), 8 VCC (power)

## ATtiny12-8SC
designator U?
8-bit AVR Microcontroller, 4.0-5.5V, 1KB Flash, 64 Bytes EEPROM, 8-pin SOIC, Commercial Grade (0°C to 70°C); DatasheetVersion: revF, Jun-2007; PackageVersion: revF, Apr-2008; PackageReference: 8S2; PackageDescription: 8-Lead, 0.208" Body, Plastic Small Outline Package (EIAJ); ComponentLink1Description: Manufacturer URL; ComponentLink1URL: http://www.atmel.com/; ComponentLink2Description: ATtiny11/12 Datasheet; ComponentLink2URL: http://www.atmel.com/dyn/resources/prod_documents/doc1006.pdf; ComponentLink3Description: ATtiny11/12 Summary; ComponentLink3URL: http://www.atmel.com/dyn/resources/prod_documents/1006S.pdf
footprint 8S2_N (SOP, 8-Leads, Body 5.3x5.3mm, Pitch 1.27mm, IPC Medium Density)
footprint 8S2_L (SOP, 8-Leads, Body 5.3x5.3mm, Pitch 1.27mm, IPC High Density)
footprint 8S2_M (SOP, 8-Leads, Body 5.3x5.3mm, Pitch 1.27mm, IPC Low Density)
pins: 1 PB5 (~{RESET}) (io), 2 PB3 (XTAL1) (io), 3 PB4 (XTAL2) (io), 4 GND (power), 5 PB0 (MOSI/AIN0) (io), 6 PB1 (MISO/INT0/AIN1) (io), 7 PB2 (SCK/T0) (io), 8 VCC (power)

## ATtiny12-8SI
designator U?
8-bit AVR Microcontroller, 4.0-5.5V, 1KB Flash, 64 Bytes EEPROM, 8-pin SOIC, Industrial Grade (-40°C to 85°C); DatasheetVersion: revF, Jun-2007; PackageVersion: revF, Apr-2008; PackageReference: 8S2; PackageDescription: 8-Lead, 0.208" Body, Plastic Small Outline Package (EIAJ); ComponentLink1Description: Manufacturer URL; ComponentLink1URL: http://www.atmel.com/; ComponentLink2Description: ATtiny11/12 Datasheet; ComponentLink2URL: http://www.atmel.com/dyn/resources/prod_documents/doc1006.pdf; ComponentLink3Description: ATtiny11/12 Summary; ComponentLink3URL: http://www.atmel.com/dyn/resources/prod_documents/1006S.pdf
footprint 8S2_N (SOP, 8-Leads, Body 5.3x5.3mm, Pitch 1.27mm, IPC Medium Density)
footprint 8S2_L (SOP, 8-Leads, Body 5.3x5.3mm, Pitch 1.27mm, IPC High Density)
footprint 8S2_M (SOP, 8-Leads, Body 5.3x5.3mm, Pitch 1.27mm, IPC Low Density)
pins: 1 PB5 (~{RESET}) (io), 2 PB3 (XTAL1) (io), 3 PB4 (XTAL2) (io), 4 GND (power), 5 PB0 (MOSI/AIN0) (io), 6 PB1 (MISO/INT0/AIN1) (io), 7 PB2 (SCK/T0) (io), 8 VCC (power)

## ATtiny12-8SU
designator U?
8-bit AVR Microcontroller, 4.0-5.5V, 1KB Flash, 64 Bytes EEPROM, 8-pin SOIC, Industrial Grade (-40°C to 85°C), Pb-Free; DatasheetVersion: revF, Jun-2007; PackageVersion: revF, Apr-2008; PackageReference: 8S2; PackageDescription: 8-Lead, 0.208" Body, Plastic Small Outline Package (EIAJ); ComponentLink1Description: Manufacturer URL; ComponentLink1URL: http://www.atmel.com/; ComponentLink2Description: ATtiny11/12 Datasheet; ComponentLink2URL: http://www.atmel.com/dyn/resources/prod_documents/doc1006.pdf; ComponentLink3Description: ATtiny11/12 Summary; ComponentLink3URL: http://www.atmel.com/dyn/resources/prod_documents/1006S.pdf
footprint 8S2_N (SOP, 8-Leads, Body 5.3x5.3mm, Pitch 1.27mm, IPC Medium Density)
footprint 8S2_L (SOP, 8-Leads, Body 5.3x5.3mm, Pitch 1.27mm, IPC High Density)
footprint 8S2_M (SOP, 8-Leads, Body 5.3x5.3mm, Pitch 1.27mm, IPC Low Density)
pins: 1 PB5 (~{RESET}) (io), 2 PB3 (XTAL1) (io), 3 PB4 (XTAL2) (io), 4 GND (power), 5 PB0 (MOSI/AIN0) (io), 6 PB1 (MISO/INT0/AIN1) (io), 7 PB2 (SCK/T0) (io), 8 VCC (power)

## ATtiny12L-4PC
designator U?
8-bit AVR Microcontroller, 2.7-5.5V, 1KB Flash, 64 Bytes EEPROM, 8-pin PDIP, Commercial Grade (0°C to 70°C); DatasheetVersion: revF, Jun-2007; PackageVersion: revB, Jan-2002; PackageReference: 8P3; PackageDescription: 8-Lead, 0.300" Wide Body, Plastic Dual In-Line Package (PDIP); Code_JEDEC: MS-001-BA; ComponentLink1Description: Manufacturer URL; ComponentLink1URL: http://www.atmel.com/; ComponentLink2Description: ATtiny11/12 Datasheet; ComponentLink2URL: http://www.atmel.com/dyn/resources/prod_documents/doc1006.pdf; ComponentLink3Description: ATtiny11/12 Summary; ComponentLink3URL: http://www.atmel.com/dyn/resources/prod_documents/1006S.pdf
footprint 8P3 (DIP, 8-Leads, Row Spacing 7.62mm, Pitch 2.54mm, Body 9.59x6.61mm)
pins: 1 PB5 (~{RESET}) (io), 2 PB3 (XTAL1) (io), 3 PB4 (XTAL2) (io), 4 GND (power), 5 PB0 (MOSI/AIN0) (io), 6 PB1 (MISO/INT0/AIN1) (io), 7 PB2 (SCK/T0) (io), 8 VCC (power)

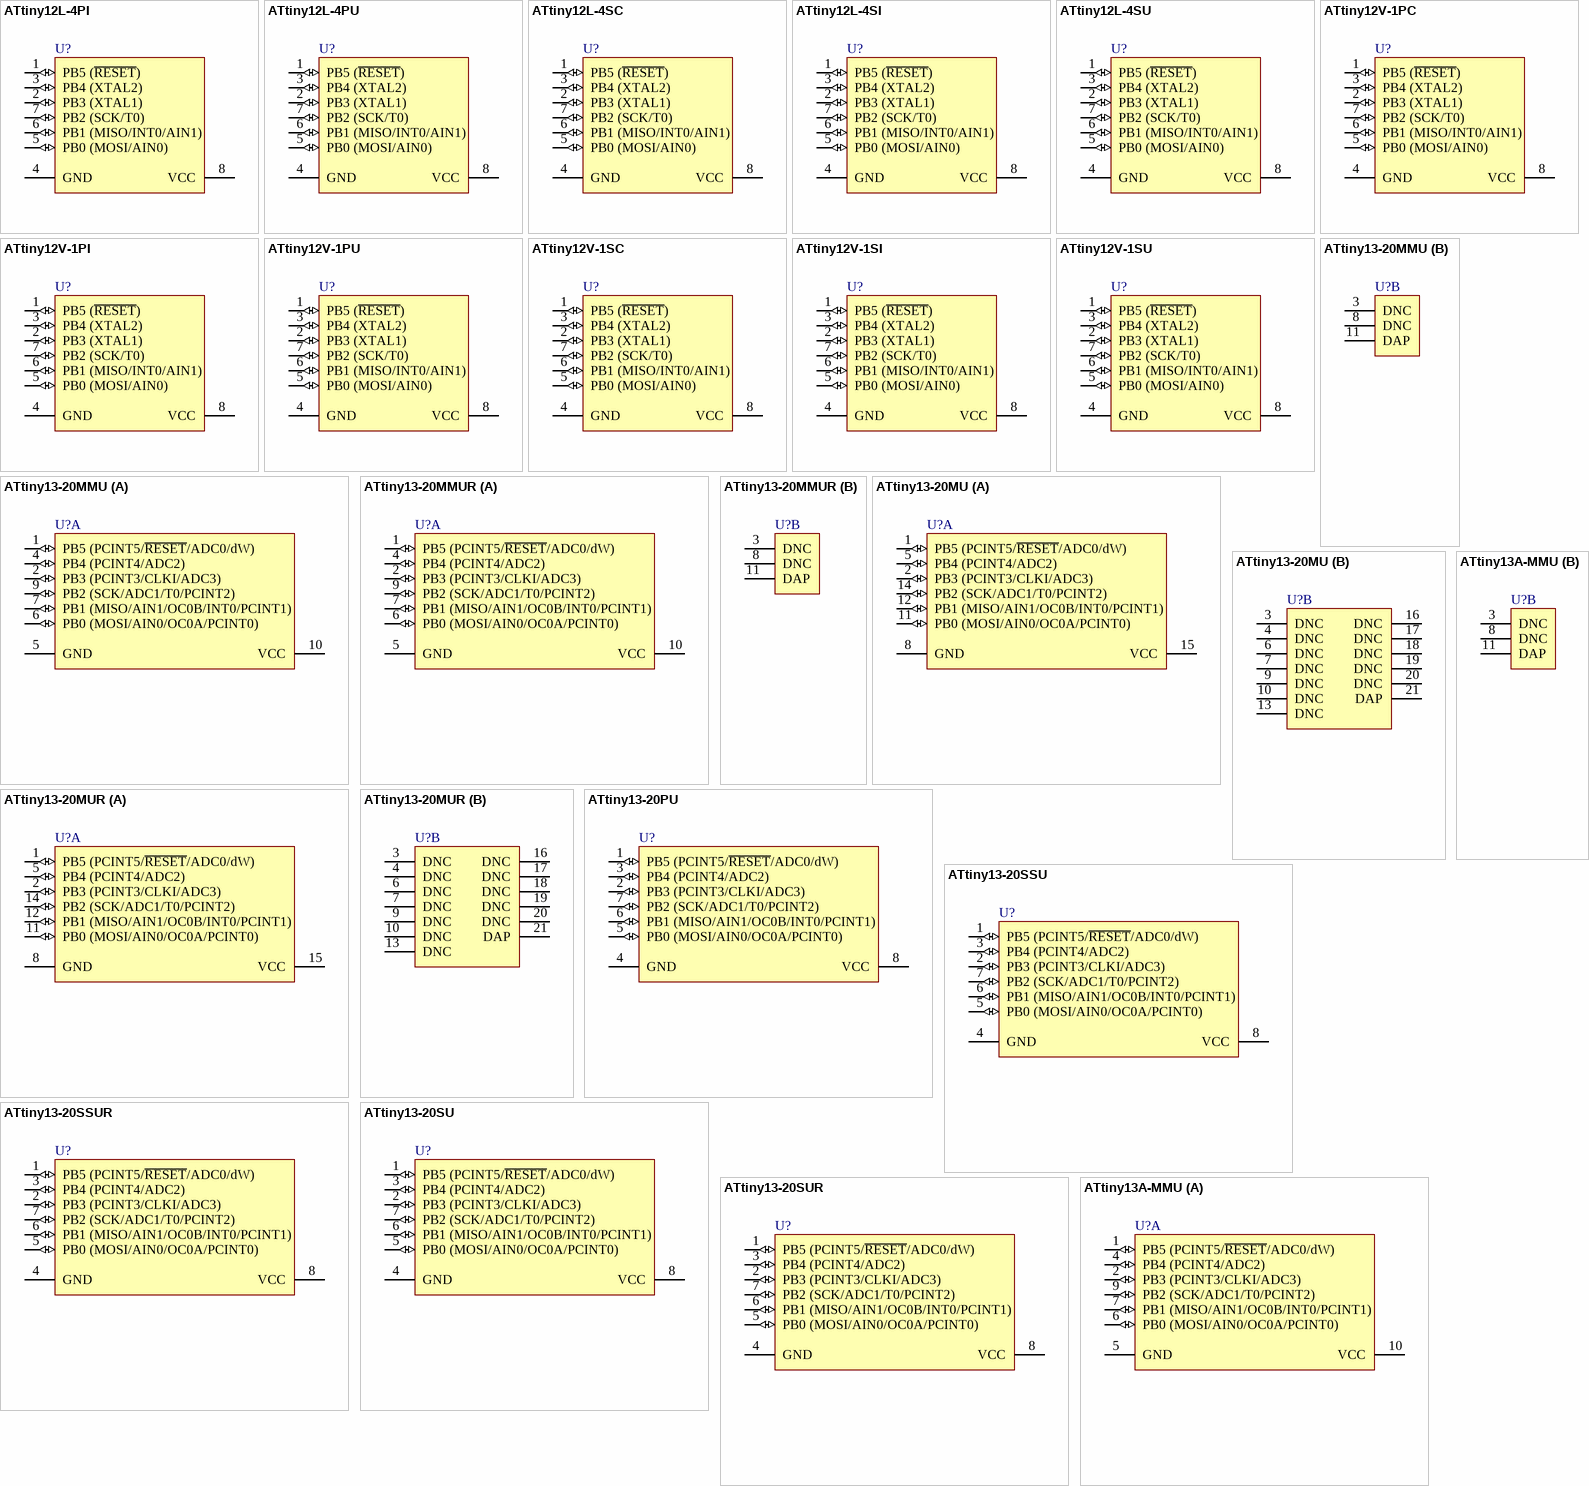
[diagram p1: symbols ATtiny12L-4PI to ATtiny13A-MMU]

## ATtiny12L-4PI
designator U?
8-bit AVR Microcontroller, 2.7-5.5V, 1KB Flash, 64 Bytes EEPROM, 8-pin PDIP, Industrial Grade (-40°C to 85°C); DatasheetVersion: revF, Jun-2007; PackageVersion: revB, Jan-2002; PackageReference: 8P3; PackageDescription: 8-Lead, 0.300" Wide Body, Plastic Dual In-Line Package (PDIP); Code_JEDEC: MS-001-BA; ComponentLink1Description: Manufacturer URL; ComponentLink1URL: http://www.atmel.com/; ComponentLink2Description: ATtiny11/12 Datasheet; ComponentLink2URL: http://www.atmel.com/dyn/resources/prod_documents/doc1006.pdf; ComponentLink3Description: ATtiny11/12 Summary; ComponentLink3URL: http://www.atmel.com/dyn/resources/prod_documents/1006S.pdf
footprint 8P3 (DIP, 8-Leads, Row Spacing 7.62mm, Pitch 2.54mm, Body 9.59x6.61mm)
pins: 1 PB5 (~{RESET}) (io), 2 PB3 (XTAL1) (io), 3 PB4 (XTAL2) (io), 4 GND (power), 5 PB0 (MOSI/AIN0) (io), 6 PB1 (MISO/INT0/AIN1) (io), 7 PB2 (SCK/T0) (io), 8 VCC (power)

## ATtiny12L-4PU
designator U?
8-bit AVR Microcontroller, 2.7-5.5V, 1KB Flash, 64 Bytes EEPROM, 8-pin PDIP, Industrial Grade (-40°C to 85°C), Pb-Free; DatasheetVersion: revF, Jun-2007; PackageVersion: revB, Jan-2002; PackageReference: 8P3; PackageDescription: 8-Lead, 0.300" Wide Body, Plastic Dual In-Line Package (PDIP); Code_JEDEC: MS-001-BA; ComponentLink1Description: Manufacturer URL; ComponentLink1URL: http://www.atmel.com/; ComponentLink2Description: ATtiny11/12 Datasheet; ComponentLink2URL: http://www.atmel.com/dyn/resources/prod_documents/doc1006.pdf; ComponentLink3Description: ATtiny11/12 Summary; ComponentLink3URL: http://www.atmel.com/dyn/resources/prod_documents/1006S.pdf
footprint 8P3 (DIP, 8-Leads, Row Spacing 7.62mm, Pitch 2.54mm, Body 9.59x6.61mm)
pins: 1 PB5 (~{RESET}) (io), 2 PB3 (XTAL1) (io), 3 PB4 (XTAL2) (io), 4 GND (power), 5 PB0 (MOSI/AIN0) (io), 6 PB1 (MISO/INT0/AIN1) (io), 7 PB2 (SCK/T0) (io), 8 VCC (power)

## ATtiny12L-4SC
designator U?
8-bit AVR Microcontroller, 2.7-5.5V, 1KB Flash, 64 Bytes EEPROM, 8-pin SOIC, Commercial Grade (0°C to 70°C); DatasheetVersion: revF, Jun-2007; PackageVersion: revF, Apr-2008; PackageReference: 8S2; PackageDescription: 8-Lead, 0.208" Body, Plastic Small Outline Package (EIAJ); ComponentLink1Description: Manufacturer URL; ComponentLink1URL: http://www.atmel.com/; ComponentLink2Description: ATtiny11/12 Datasheet; ComponentLink2URL: http://www.atmel.com/dyn/resources/prod_documents/doc1006.pdf; ComponentLink3Description: ATtiny11/12 Summary; ComponentLink3URL: http://www.atmel.com/dyn/resources/prod_documents/1006S.pdf
footprint 8S2_N (SOP, 8-Leads, Body 5.3x5.3mm, Pitch 1.27mm, IPC Medium Density)
footprint 8S2_L (SOP, 8-Leads, Body 5.3x5.3mm, Pitch 1.27mm, IPC High Density)
footprint 8S2_M (SOP, 8-Leads, Body 5.3x5.3mm, Pitch 1.27mm, IPC Low Density)
pins: 1 PB5 (~{RESET}) (io), 2 PB3 (XTAL1) (io), 3 PB4 (XTAL2) (io), 4 GND (power), 5 PB0 (MOSI/AIN0) (io), 6 PB1 (MISO/INT0/AIN1) (io), 7 PB2 (SCK/T0) (io), 8 VCC (power)

## ATtiny12L-4SI
designator U?
8-bit AVR Microcontroller, 2.7-5.5V, 1KB Flash, 64 Bytes EEPROM, 8-pin SOIC, Industrial Grade (-40°C to 85°C); DatasheetVersion: revF, Jun-2007; PackageVersion: revF, Apr-2008; PackageReference: 8S2; PackageDescription: 8-Lead, 0.208" Body, Plastic Small Outline Package (EIAJ); ComponentLink1Description: Manufacturer URL; ComponentLink1URL: http://www.atmel.com/; ComponentLink2Description: ATtiny11/12 Datasheet; ComponentLink2URL: http://www.atmel.com/dyn/resources/prod_documents/doc1006.pdf; ComponentLink3Description: ATtiny11/12 Summary; ComponentLink3URL: http://www.atmel.com/dyn/resources/prod_documents/1006S.pdf
footprint 8S2_N (SOP, 8-Leads, Body 5.3x5.3mm, Pitch 1.27mm, IPC Medium Density)
footprint 8S2_L (SOP, 8-Leads, Body 5.3x5.3mm, Pitch 1.27mm, IPC High Density)
footprint 8S2_M (SOP, 8-Leads, Body 5.3x5.3mm, Pitch 1.27mm, IPC Low Density)
pins: 1 PB5 (~{RESET}) (io), 2 PB3 (XTAL1) (io), 3 PB4 (XTAL2) (io), 4 GND (power), 5 PB0 (MOSI/AIN0) (io), 6 PB1 (MISO/INT0/AIN1) (io), 7 PB2 (SCK/T0) (io), 8 VCC (power)

## ATtiny12L-4SU
designator U?
8-bit AVR Microcontroller, 2.7-5.5V, 1KB Flash, 64 Bytes EEPROM, 8-pin SOIC, Industrial Grade (-40°C to 85°C), Pb-Free; DatasheetVersion: revF, Jun-2007; PackageVersion: revF, Apr-2008; PackageReference: 8S2; PackageDescription: 8-Lead, 0.208" Body, Plastic Small Outline Package (EIAJ); ComponentLink1Description: Manufacturer URL; ComponentLink1URL: http://www.atmel.com/; ComponentLink2Description: ATtiny11/12 Datasheet; ComponentLink2URL: http://www.atmel.com/dyn/resources/prod_documents/doc1006.pdf; ComponentLink3Description: ATtiny11/12 Summary; ComponentLink3URL: http://www.atmel.com/dyn/resources/prod_documents/1006S.pdf
footprint 8S2_N (SOP, 8-Leads, Body 5.3x5.3mm, Pitch 1.27mm, IPC Medium Density)
footprint 8S2_L (SOP, 8-Leads, Body 5.3x5.3mm, Pitch 1.27mm, IPC High Density)
footprint 8S2_M (SOP, 8-Leads, Body 5.3x5.3mm, Pitch 1.27mm, IPC Low Density)
pins: 1 PB5 (~{RESET}) (io), 2 PB3 (XTAL1) (io), 3 PB4 (XTAL2) (io), 4 GND (power), 5 PB0 (MOSI/AIN0) (io), 6 PB1 (MISO/INT0/AIN1) (io), 7 PB2 (SCK/T0) (io), 8 VCC (power)

## ATtiny12V-1PC
designator U?
8-bit AVR Microcontroller, 1.8-5.5V, 1KB Flash, 64 Bytes EEPROM, 8-pin PDIP, Commercial Grade (0°C to 70°C); DatasheetVersion: revF, Jun-2007; PackageVersion: revB, Jan-2002; PackageReference: 8P3; PackageDescription: 8-Lead, 0.300" Wide Body, Plastic Dual In-Line Package (PDIP); Code_JEDEC: MS-001-BA; ComponentLink1Description: Manufacturer URL; ComponentLink1URL: http://www.atmel.com/; ComponentLink2Description: ATtiny11/12 Datasheet; ComponentLink2URL: http://www.atmel.com/dyn/resources/prod_documents/doc1006.pdf; ComponentLink3Description: ATtiny11/12 Summary; ComponentLink3URL: http://www.atmel.com/dyn/resources/prod_documents/1006S.pdf
footprint 8P3 (DIP, 8-Leads, Row Spacing 7.62mm, Pitch 2.54mm, Body 9.59x6.61mm)
pins: 1 PB5 (~{RESET}) (io), 2 PB3 (XTAL1) (io), 3 PB4 (XTAL2) (io), 4 GND (power), 5 PB0 (MOSI/AIN0) (io), 6 PB1 (MISO/INT0/AIN1) (io), 7 PB2 (SCK/T0) (io), 8 VCC (power)

## ATtiny12V-1PI
designator U?
8-bit AVR Microcontroller, 1.8-5.5V, 1KB Flash, 64 Bytes EEPROM, 8-pin PDIP, Industrial Grade (-40°C to 85°C); DatasheetVersion: revF, Jun-2007; PackageVersion: revB, Jan-2002; PackageReference: 8P3; PackageDescription: 8-Lead, 0.300" Wide Body, Plastic Dual In-Line Package (PDIP); Code_JEDEC: MS-001-BA; ComponentLink1Description: Manufacturer URL; ComponentLink1URL: http://www.atmel.com/; ComponentLink2Description: ATtiny11/12 Datasheet; ComponentLink2URL: http://www.atmel.com/dyn/resources/prod_documents/doc1006.pdf; ComponentLink3Description: ATtiny11/12 Summary; ComponentLink3URL: http://www.atmel.com/dyn/resources/prod_documents/1006S.pdf
footprint 8P3 (DIP, 8-Leads, Row Spacing 7.62mm, Pitch 2.54mm, Body 9.59x6.61mm)
pins: 1 PB5 (~{RESET}) (io), 2 PB3 (XTAL1) (io), 3 PB4 (XTAL2) (io), 4 GND (power), 5 PB0 (MOSI/AIN0) (io), 6 PB1 (MISO/INT0/AIN1) (io), 7 PB2 (SCK/T0) (io), 8 VCC (power)

## ATtiny12V-1PU
designator U?
8-bit AVR Microcontroller, 1.8-5.5V, 1KB Flash, 64 Bytes EEPROM, 8-pin PDIP, Industrial Grade (-40°C to 85°C), Pb-Free; DatasheetVersion: revF, Jun-2007; PackageVersion: revB, Jan-2002; PackageReference: 8P3; PackageDescription: 8-Lead, 0.300" Wide Body, Plastic Dual In-Line Package (PDIP); Code_JEDEC: MS-001-BA; ComponentLink1Description: Manufacturer URL; ComponentLink1URL: http://www.atmel.com/; ComponentLink2Description: ATtiny11/12 Datasheet; ComponentLink2URL: http://www.atmel.com/dyn/resources/prod_documents/doc1006.pdf; ComponentLink3Description: ATtiny11/12 Summary; ComponentLink3URL: http://www.atmel.com/dyn/resources/prod_documents/1006S.pdf
footprint 8P3 (DIP, 8-Leads, Row Spacing 7.62mm, Pitch 2.54mm, Body 9.59x6.61mm)
pins: 1 PB5 (~{RESET}) (io), 2 PB3 (XTAL1) (io), 3 PB4 (XTAL2) (io), 4 GND (power), 5 PB0 (MOSI/AIN0) (io), 6 PB1 (MISO/INT0/AIN1) (io), 7 PB2 (SCK/T0) (io), 8 VCC (power)

## ATtiny12V-1SC
designator U?
8-bit AVR Microcontroller, 1.8-5.5V, 1KB Flash, 64 Bytes EEPROM, 8-pin SOIC, Commercial Grade (0°C to 70°C); DatasheetVersion: revF, Jun-2007; PackageVersion: revF, Apr-2008; PackageReference: 8S2; PackageDescription: 8-Lead, 0.208" Body, Plastic Small Outline Package (EIAJ); ComponentLink1Description: Manufacturer URL; ComponentLink1URL: http://www.atmel.com/; ComponentLink2Description: ATtiny11/12 Datasheet; ComponentLink2URL: http://www.atmel.com/dyn/resources/prod_documents/doc1006.pdf; ComponentLink3Description: ATtiny11/12 Summary; ComponentLink3URL: http://www.atmel.com/dyn/resources/prod_documents/1006S.pdf
footprint 8S2_N (SOP, 8-Leads, Body 5.3x5.3mm, Pitch 1.27mm, IPC Medium Density)
footprint 8S2_L (SOP, 8-Leads, Body 5.3x5.3mm, Pitch 1.27mm, IPC High Density)
footprint 8S2_M (SOP, 8-Leads, Body 5.3x5.3mm, Pitch 1.27mm, IPC Low Density)
pins: 1 PB5 (~{RESET}) (io), 2 PB3 (XTAL1) (io), 3 PB4 (XTAL2) (io), 4 GND (power), 5 PB0 (MOSI/AIN0) (io), 6 PB1 (MISO/INT0/AIN1) (io), 7 PB2 (SCK/T0) (io), 8 VCC (power)

## ATtiny12V-1SI
designator U?
8-bit AVR Microcontroller, 1.8-5.5V, 1KB Flash, 64 Bytes EEPROM, 8-pin SOIC, Industrial Grade (-40°C to 85°C); DatasheetVersion: revF, Jun-2007; PackageVersion: revF, Apr-2008; PackageReference: 8S2; PackageDescription: 8-Lead, 0.208" Body, Plastic Small Outline Package (EIAJ); ComponentLink1Description: Manufacturer URL; ComponentLink1URL: http://www.atmel.com/; ComponentLink2Description: ATtiny11/12 Datasheet; ComponentLink2URL: http://www.atmel.com/dyn/resources/prod_documents/doc1006.pdf; ComponentLink3Description: ATtiny11/12 Summary; ComponentLink3URL: http://www.atmel.com/dyn/resources/prod_documents/1006S.pdf
footprint 8S2_N (SOP, 8-Leads, Body 5.3x5.3mm, Pitch 1.27mm, IPC Medium Density)
footprint 8S2_L (SOP, 8-Leads, Body 5.3x5.3mm, Pitch 1.27mm, IPC High Density)
footprint 8S2_M (SOP, 8-Leads, Body 5.3x5.3mm, Pitch 1.27mm, IPC Low Density)
pins: 1 PB5 (~{RESET}) (io), 2 PB3 (XTAL1) (io), 3 PB4 (XTAL2) (io), 4 GND (power), 5 PB0 (MOSI/AIN0) (io), 6 PB1 (MISO/INT0/AIN1) (io), 7 PB2 (SCK/T0) (io), 8 VCC (power)

## ATtiny12V-1SU
designator U?
8-bit AVR Microcontroller, 1.8-5.5V, 1KB Flash, 64 Bytes EEPROM, 8-pin SOIC, Industrial Grade (-40°C to 85°C), Pb-Free; DatasheetVersion: revF, Jun-2007; PackageVersion: revF, Apr-2008; PackageReference: 8S2; PackageDescription: 8-Lead, 0.208" Body, Plastic Small Outline Package (EIAJ); ComponentLink1Description: Manufacturer URL; ComponentLink1URL: http://www.atmel.com/; ComponentLink2Description: ATtiny11/12 Datasheet; ComponentLink2URL: http://www.atmel.com/dyn/resources/prod_documents/doc1006.pdf; ComponentLink3Description: ATtiny11/12 Summary; ComponentLink3URL: http://www.atmel.com/dyn/resources/prod_documents/1006S.pdf
footprint 8S2_N (SOP, 8-Leads, Body 5.3x5.3mm, Pitch 1.27mm, IPC Medium Density)
footprint 8S2_L (SOP, 8-Leads, Body 5.3x5.3mm, Pitch 1.27mm, IPC High Density)
footprint 8S2_M (SOP, 8-Leads, Body 5.3x5.3mm, Pitch 1.27mm, IPC Low Density)
pins: 1 PB5 (~{RESET}) (io), 2 PB3 (XTAL1) (io), 3 PB4 (XTAL2) (io), 4 GND (power), 5 PB0 (MOSI/AIN0) (io), 6 PB1 (MISO/INT0/AIN1) (io), 7 PB2 (SCK/T0) (io), 8 VCC (power)

## ATtiny13-20MMU
designator U?
8-bit AVR Microcontroller, 2.7-5.5V, 1KB Flash, 64 Bytes EEPROM, 64 Bytes SRAM, 10-pin MLF, Industrial Grade (-40°C to 85°C), Pb-Free; DatasheetVersion: revJ, Aug-2010; PackageVersion: revA, Jul-2006; PackageReference: 10M1; PackageDescription: 10-pad, 3 x 3 x 1.0 mm Body, Lead Pitch 0.50 mm, 1.64 x 2.60 mm Exposed pad, Micro Lead Frame Package; Code_JEDEC: MO-229-VEED-5; ComponentLink1Description: Manufacturer URL; ComponentLink1URL: http://www.atmel.com/; ComponentLink2Description: ATtiny13  Datasheet; ComponentLink2URL: http://www.atmel.com/dyn/resources/prod_documents/doc2535.pdf; ComponentLink3Description: ATtiny13 Summary; ComponentLink3URL: http://www.atmel.com/dyn/resources/prod_documents/2535S.pdf
footprint 10M1_N (SON, 10-Leads, Body 3x3 mm, Pitch 0.5mm, IPC Medium Density)
footprint 10M1_L (SON, 10-Leads, Body 3x3 mm, Pitch 0.5mm, IPC High Density)
footprint 10M1_M (SON, 10-Leads, Body 3x3 mm, Pitch 0.5mm, IPC Low Density)
part A pins: 1 PB5 (PCINT5/~{RESET}/ADC0/dW) (io), 2 PB3 (PCINT3/CLKI/ADC3) (io), 4 PB4 (PCINT4/ADC2) (io), 5 GND (power), 6 PB0 (MOSI/AIN0/OC0A/PCINT0) (io), 7 PB1 (MISO/AIN1/OC0B/INT0/PCINT1) (io), 9 PB2 (SCK/ADC1/T0/PCINT2) (io), 10 VCC (power)
part B pins: 3 DNC, 8 DNC, 11 DAP

## ATtiny13-20MMUR
designator U?
8-bit AVR Microcontroller, 2.7-5.5V, 1KB Flash, 64 Bytes EEPROM, 64 Bytes SRAM, 10-pin MLF, Industrial Grade (-40°C to 85°C), Pb-Free, Reel; DatasheetVersion: revJ, Aug-2010; PackageVersion: revA, Jul-2006; PackageReference: 10M1; PackageDescription: 10-pad, 3 x 3 x 1.0 mm Body, Lead Pitch 0.50 mm, 1.64 x 2.60 mm Exposed pad, Micro Lead Frame Package; Code_JEDEC: MO-229-VEED-5; ComponentLink1Description: Manufacturer URL; ComponentLink1URL: http://www.atmel.com/; ComponentLink2Description: ATtiny13  Datasheet; ComponentLink2URL: http://www.atmel.com/dyn/resources/prod_documents/doc2535.pdf; ComponentLink3Description: ATtiny13 Summary; ComponentLink3URL: http://www.atmel.com/dyn/resources/prod_documents/2535S.pdf
footprint 10M1_N (SON, 10-Leads, Body 3x3 mm, Pitch 0.5mm, IPC Medium Density)
footprint 10M1_L (SON, 10-Leads, Body 3x3 mm, Pitch 0.5mm, IPC High Density)
footprint 10M1_M (SON, 10-Leads, Body 3x3 mm, Pitch 0.5mm, IPC Low Density)
part A pins: 1 PB5 (PCINT5/~{RESET}/ADC0/dW) (io), 2 PB3 (PCINT3/CLKI/ADC3) (io), 4 PB4 (PCINT4/ADC2) (io), 5 GND (power), 6 PB0 (MOSI/AIN0/OC0A/PCINT0) (io), 7 PB1 (MISO/AIN1/OC0B/INT0/PCINT1) (io), 9 PB2 (SCK/ADC1/T0/PCINT2) (io), 10 VCC (power)
part B pins: 3 DNC, 8 DNC, 11 DAP

## ATtiny13-20MU
designator U?
8-bit AVR Microcontroller, 2.7-5.5V, 1KB Flash, 64 Bytes EEPROM, 64 Bytes SRAM, 20-pin MLF, Industrial Grade (-40°C to 85°C), Pb-Free; DatasheetVersion: revJ, Aug-2010; PackageVersion: revA, Oct-2004; PackageReference: 20M1; PackageDescription: 20-pad, 4 x 4 x 0.8 mm Body, Lead Pitch 0.50 mm, 2.6 mm Exposed Pad, Micro Lead Frame Package (MLF); Code_JEDEC: MO-220WGGD-5; ComponentLink1Description: Manufacturer URL; ComponentLink1URL: http://www.atmel.com/; ComponentLink2Description: ATtiny13  Datasheet; ComponentLink2URL: http://www.atmel.com/dyn/resources/prod_documents/doc2535.pdf; ComponentLink3Description: ATtiny13 Summary; ComponentLink3URL: http://www.atmel.com/dyn/resources/prod_documents/2535S.pdf
footprint 20M1_N (QFN, 20-Leads, Body 4x4mm, Pitch 0.5mm, Thermal Pad 2.7x2.7mm, IPC Medium Density)
footprint 20M1_L (QFN, 20-Leads, Body 4x4mm, Pitch 0.5mm, Thermal Pad 2.7x2.7mm, IPC High Density)
footprint 20M1_M (QFN, 20-Leads, Body 4x4mm, Pitch 0.5mm, Thermal Pad 2.7x2.7mm, IPC Low Density)
part A pins: 1 PB5 (PCINT5/~{RESET}/ADC0/dW) (io), 2 PB3 (PCINT3/CLKI/ADC3) (io), 5 PB4 (PCINT4/ADC2) (io), 8 GND (power), 11 PB0 (MOSI/AIN0/OC0A/PCINT0) (io), 12 PB1 (MISO/AIN1/OC0B/INT0/PCINT1) (io), 14 PB2 (SCK/ADC1/T0/PCINT2) (io), 15 VCC (power)
part B pins: 3 DNC, 4 DNC, 6 DNC, 7 DNC, 9 DNC, 10 DNC, 13 DNC, 16 DNC, 17 DNC, 18 DNC, 19 DNC, 20 DNC, 21 DAP (power)

## ATtiny13-20MUR
designator U?
8-bit AVR Microcontroller, 2.7-5.5V, 1KB Flash, 64 Bytes EEPROM, 64 Bytes SRAM, 20-pin MLF, Industrial Grade (-40°C to 85°C), Pb-Free, Reel; DatasheetVersion: revJ, Aug-2010; PackageVersion: revA, Oct-2004; PackageReference: 20M1; PackageDescription: 20-pad, 4 x 4 x 0.8 mm Body, Lead Pitch 0.50 mm, 2.6 mm Exposed Pad, Micro Lead Frame Package (MLF); Code_JEDEC: MO-220WGGD-5; ComponentLink1Description: Manufacturer URL; ComponentLink1URL: http://www.atmel.com/; ComponentLink2Description: ATtiny13  Datasheet; ComponentLink2URL: http://www.atmel.com/dyn/resources/prod_documents/doc2535.pdf; ComponentLink3Description: ATtiny13 Summary; ComponentLink3URL: http://www.atmel.com/dyn/resources/prod_documents/2535S.pdf
footprint 20M1_N (QFN, 20-Leads, Body 4x4mm, Pitch 0.5mm, Thermal Pad 2.7x2.7mm, IPC Medium Density)
footprint 20M1_L (QFN, 20-Leads, Body 4x4mm, Pitch 0.5mm, Thermal Pad 2.7x2.7mm, IPC High Density)
footprint 20M1_M (QFN, 20-Leads, Body 4x4mm, Pitch 0.5mm, Thermal Pad 2.7x2.7mm, IPC Low Density)
part A pins: 1 PB5 (PCINT5/~{RESET}/ADC0/dW) (io), 2 PB3 (PCINT3/CLKI/ADC3) (io), 5 PB4 (PCINT4/ADC2) (io), 8 GND (power), 11 PB0 (MOSI/AIN0/OC0A/PCINT0) (io), 12 PB1 (MISO/AIN1/OC0B/INT0/PCINT1) (io), 14 PB2 (SCK/ADC1/T0/PCINT2) (io), 15 VCC (power)
part B pins: 3 DNC, 4 DNC, 6 DNC, 7 DNC, 9 DNC, 10 DNC, 13 DNC, 16 DNC, 17 DNC, 18 DNC, 19 DNC, 20 DNC, 21 DAP (power)